# Altium footprint library PcbLib1.PcbLib: 60 footprints (part 2 of 4)
Each footprint in its own frame and in the unit in brackets; x right, y up, seen from the top. Pads: shape width x height; smd on the part's side, far side on the other; paste and mask are expansions set on the pad; w line width, h text height; cw(c..) or ccw(c..) is an arc to the next point about the centre after c.
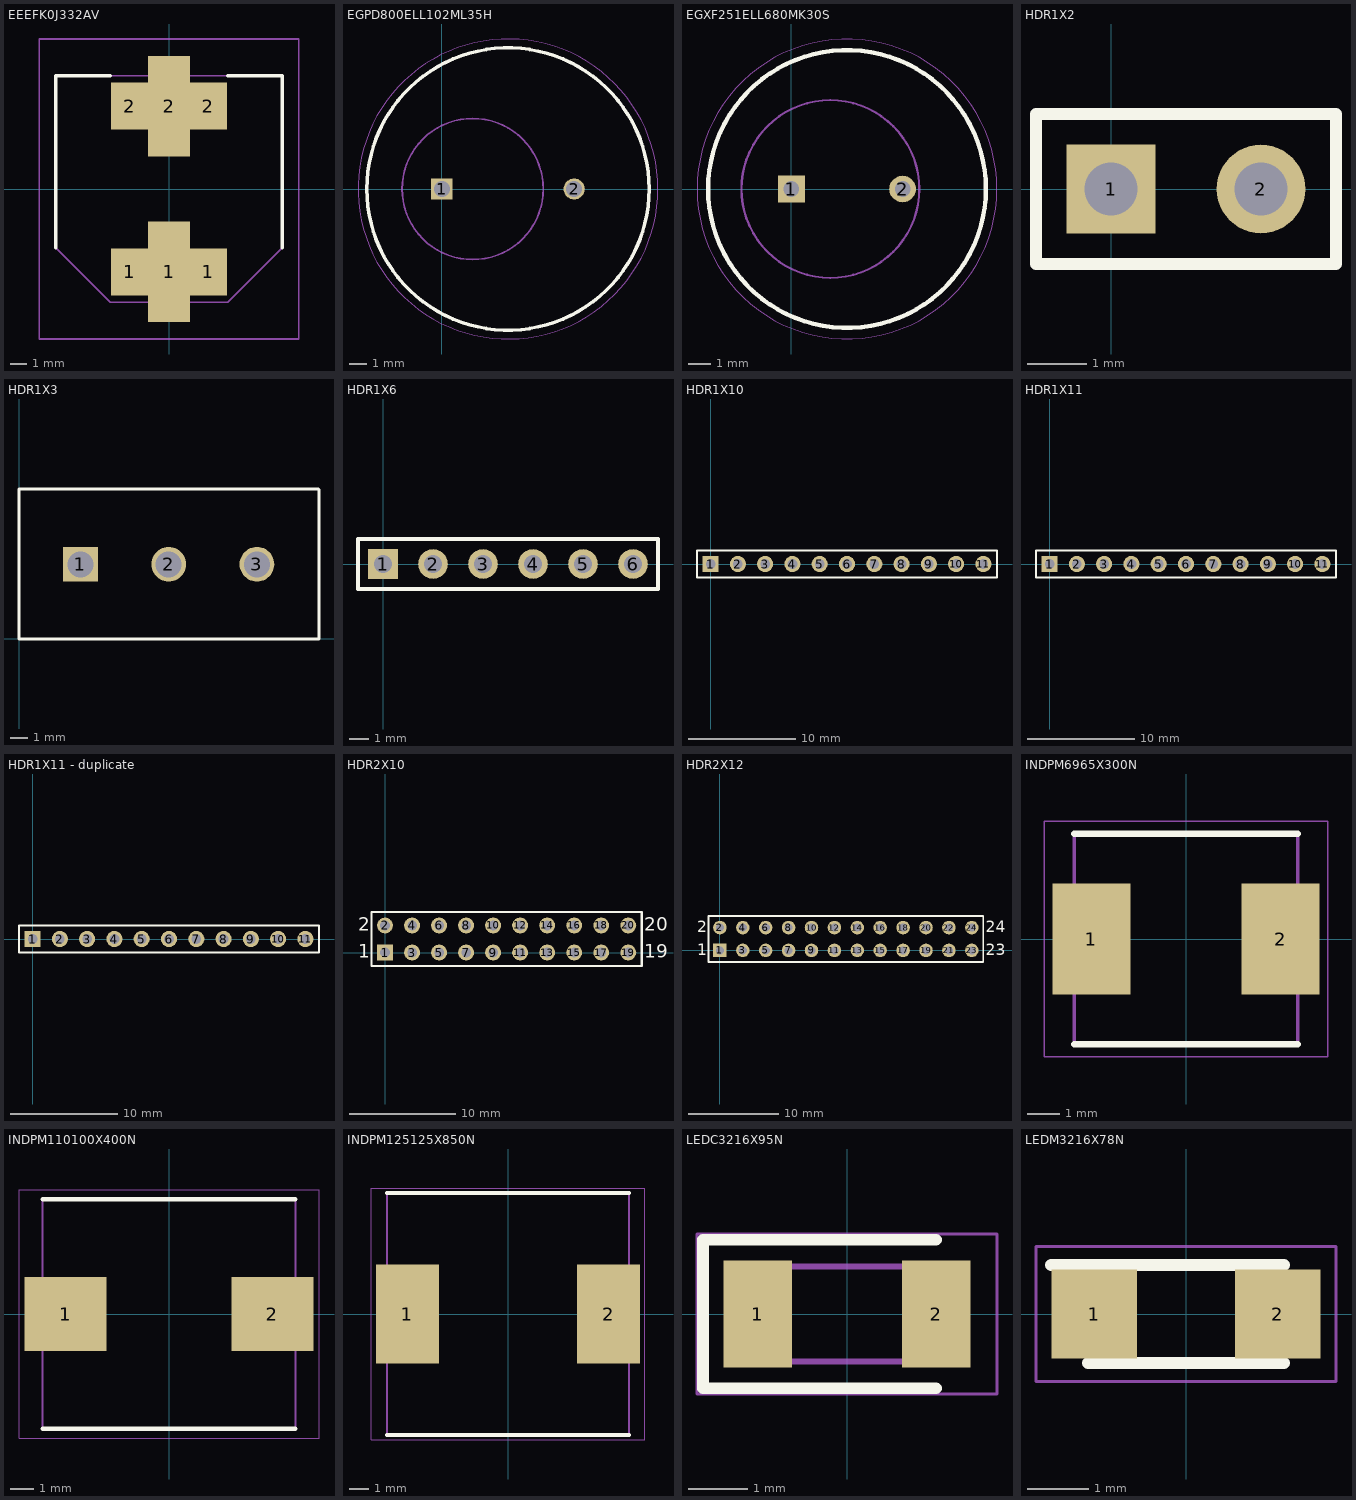
[diagram p1: the footprints below, top view; thin cyan lines are the x and y axes]

## EEEFK0J332AV [mm]
pads (6):
  rect 2.2x2.8 smd: 1(-2.35,-4.95) 1(2.35,-4.95) 2(-2.35,4.95) 2(2.35,4.95)
  rect 2.5x6 smd: 1(0,-4.95) 2(0,4.95)
Top Overlay:
  lines w0.2: -6.75,-3.5 -6.75,6.75 -3.5,6.75 ; 3.5,6.75 6.75,6.75 6.75,-3.5
Mechanical 13:
  lines w0.1: -6.75,-3.5 -3.5,-6.75 ; -6.75,-3.5 -6.75,6.75 6.75,6.75 6.75,-3.5 3.5,-6.75 -3.5,-6.75 ; -6.75,-3.5 -3.5,-6.75
Mechanical 15:
  lines w0.1: -7.75,-8.95 -7.75,8.95 7.75,8.95 7.75,-8.95 -7.75,-8.95
3D body "EEVFK1K101V.stp": height 13.8, standoff 0, extent -6.731,-7.323 6.769,7.577

## EGPD800ELL102ML35H [mm] "1000uF"
pads (2):
  rect 1.2x1.2 hole 0.9: 1(0,0)
  round 1.2 hole 0.9: 2(7.5,0)
Top Overlay:
  circle w0.2: c3.75,0 r8
Mechanical 13:
  circle w0.1: c1.75,0 r4
Mechanical 15:
  circle w0.05: c3.75,0 r8.5
3D body: height 0, standoff 0, extent 7.5,0 7.5,0
3D body: height 0, standoff 0, extent 0,0 0,0
3D body: height 16, standoff 0, extent -4.25,-8 11.75,8

## EGXF251ELL680MK30S [mm] "68uF"
pads (2):
  rect 1.2x1.2 hole 0.7: 1(0,0)
  round 1.2 hole 0.7: 2(5,0)
Top Overlay:
  circle w0.2: c2.5,0 r6.25
Mechanical 13:
  circle w0.1: c1.75,0 r4
Mechanical 15:
  circle w0.05: c2.5,0 r6.75
3D body: height 0, standoff 0, extent 5,0 5,0
3D body: height 8, standoff 0, extent -3.71,-6.25 8.79,6.25
3D body: height 0, standoff 0, extent 0,0 0,0

## HDR1X2 [mm] "Connector; Header; 2 Position"
pads (2):
  rect 1.5x1.5 hole 0.9: 1(0,0)
  round 1.5 hole 0.9: 2(2.54,0)
Top Overlay:
  lines w0.2: -1.27,-1.27 -1.27,1.27 3.81,1.27 3.81,-1.27 -1.27,-1.27

## HDR1X3 [mm] "Connector; Header; 3 Position"
pads (3):
  rect 2x2 hole 1.5: 1(3.54,4.3)
  round 2 hole 1.5: 2(8.62,4.3) 3(13.7,4.3)
Top Overlay:
  lines w0.2: 0,8.6 0,0 17.24,0 ; 0,8.636 17.24,8.636 ; 17.272,0 17.272,8.6

## HDR1X6 [mm] "Connector; Header; 6 Position"
pads (6):
  rect 1.5x1.5 hole 0.9: 1(0,0)
  round 1.5 hole 0.9: 2(2.54,0) 3(5.08,0) 4(7.62,0) 5(10.16,0) 6(12.7,0)
Top Overlay:
  lines w0.2: -1.27,-1.27 -1.27,1.27 13.97,1.27 13.97,-1.27 -1.27,-1.27

## HDR1X10 [mm] "Connector; Header; 10 Position"
pads (11):
  rect 1.5x1.5 hole 0.9: 1(0,0)
  round 1.5 hole 0.9: 2(2.54,0) 3(5.08,0) 4(7.62,0) 5(10.16,0) 6(12.7,0) 7(15.24,0) 8(17.78,0) 9(20.32,0) 10(22.86,0) 11(25.4,0)
Top Overlay:
  lines w0.2: -1.27,-1.27 -1.27,1.27 0.635,1.27 26.67,1.27 26.67,-1.27 -1.27,-1.27

## HDR1X11 [mm] "Connector; Header; 11 Position"
pads (11):
  rect 1.5x1.5 hole 0.9: 1(0,0)
  round 1.5 hole 0.9: 2(2.54,0) 3(5.08,0) 4(7.62,0) 5(10.16,0) 6(12.7,0) 7(15.24,0) 8(17.78,0) 9(20.32,0) 10(22.86,0) 11(25.4,0)
Top Overlay:
  lines w0.2: -1.27,-1.27 -1.27,1.27 0.635,1.27 26.67,1.27 26.67,-1.27 -1.27,-1.27

## HDR1X11 - duplicate [mm] "Connector; Header; 11 Position"
pads (11):
  rect 1.5x1.5 hole 0.9: 1(0,0)
  round 1.5 hole 0.9: 2(2.54,0) 3(5.08,0) 4(7.62,0) 5(10.16,0) 6(12.7,0) 7(15.24,0) 8(17.78,0) 9(20.32,0) 10(22.86,0) 11(25.4,0)
Top Overlay:
  lines w0.2: -1.27,-1.27 26.67,-1.27 26.67,1.27 0.635,1.27 -1.27,1.27 -1.27,-1.27

## HDR2X10 [mm] "Connector; Header; 10x2 Position"
pads (20):
  rect 1.5x1.5 hole 0.9: 1(0,0)
  round 1.5 hole 0.9: 2(0,2.54) 3(2.54,0) 4(2.54,2.54) 5(5.08,0) 6(5.08,2.54) 7(7.62,0) 8(7.62,2.54) 9(10.16,0) 10(10.16,2.54) 11(12.7,0) 12(12.7,2.54) 13(15.24,0) 14(15.24,2.54) 15(17.78,0) 16(17.78,2.54) 17(20.32,0) 18(20.32,2.54) 19(22.86,0) 20(22.86,2.54)
Top Overlay:
  lines w0.2: -1.27,-1.27 0.635,-1.27 24.13,-1.27 24.13,3.81 0.635,3.81 -1.27,3.81 -1.27,-1.27
  text "20" at 24.384,2.032 h1.27
  text "19" at 24.384,-0.508 h1.27
  text "1" at -2.54,-0.508 h1.27
  text "2" at -2.54,2.032 h1.27

## HDR2X12 [mm] "Connector; Header; 12x2 Position"
pads (24):
  rect 1.5x1.5 hole 0.9: 1(0,0)
  round 1.5 hole 0.9: 2(0,2.54) 3(2.54,0) 4(2.54,2.54) 5(5.08,0) 6(5.08,2.54) 7(7.62,0) 8(7.62,2.54) 9(10.16,0) 10(10.16,2.54) 11(12.7,0) 12(12.7,2.54) 13(15.24,0) 14(15.24,2.54) 15(17.78,0) 16(17.78,2.54) 17(20.32,0) 18(20.32,2.54) 19(22.86,0) 20(22.86,2.54) 21(25.4,0) 22(25.4,2.54) 23(27.94,0) 24(27.94,2.54)
Top Overlay:
  lines w0.2: -1.27,-1.27 29.21,-1.27 29.21,3.81 -1.27,3.81 -1.27,-1.27
  text "24" at 29.464,2.032 h1.27
  text "23" at 29.464,-0.508 h1.27
  text "2" at -2.54,2.032 h1.27
  text "1" at -2.54,-0.508 h1.27

## INDPM6965X300N [mm]
pads (2):
  rect 2.4x3.4 smd: 1(-2.9,0) 2(2.9,0)
Top Overlay:
  lines w0.2: -3.43,-3.235 3.43,-3.235 ; -3.43,3.235 3.43,3.235
Mechanical 13:
  lines w0.1: -3.43,-3.235 3.43,-3.235 3.43,3.235 -3.43,3.235 -3.43,-3.235
Mechanical 15:
  lines w0.05: -4.35,-3.612 4.35,-3.612 4.35,3.612 -4.35,3.612 -4.35,-3.612
3D body "IHLP2525CZER220M11.stp": height 2.89, standoff 0, extent -3.542,-3.331 3.535,3.339

## INDPM110100X400N [mm]
pads (2):
  rect 3.55x3.2 smd: 1(-4.5,0) 2(4.5,0)
Top Overlay:
  lines w0.2: -5.5,-5 5.5,-5 ; -5.5,5 5.5,5
Mechanical 13:
  lines w0.1: -5.5,-5 5.5,-5 5.5,5 -5.5,5 -5.5,-5
Mechanical 15:
  lines w0.05: -6.525,-5.4 6.525,-5.4 6.525,5.4 -6.525,5.4 -6.525,-5.4
3D body "SRP1038C-100M.stp": height 4, standoff 0, extent -5.5,-5 5.5,5

## INDPM125125X850N [mm]
pads (2):
  rect 3.25x5.1 smd: 1(-5.2,0) 2(5.2,0)
Top Overlay:
  lines w0.2: -6.25,-6.25 6.25,-6.25 ; -6.25,6.25 6.25,6.25
Mechanical 13:
  lines w0.1: -6.25,-6.25 6.25,-6.25 6.25,6.25 -6.25,6.25 -6.25,-6.25
Mechanical 15:
  lines w0.05: -7.075,-6.5 7.075,-6.5 7.075,6.5 -7.075,6.5 -7.075,-6.5
3D body "B82477P4333M000.stp": height 7.86, standoff 0.01, extent -6,-6 6,6

## LEDC3216X95N [mm]
pads (2):
  rect 1.15x1.8 smd: 1(-1.5,0) 2(1.5,0)
Top Overlay:
  lines w0.2: 1.5,-1.25 -2.425,-1.25 -2.425,1.25 1.5,1.25
Mechanical 13:
  lines w0.1: -1.6,0.267 -1.067,0.8 ; -1.6,-0.8 -1.6,0.8 1.6,0.8 1.6,-0.8 -1.6,-0.8
Mechanical 15:
  lines w0.05: -2.525,-1.35 -2.525,1.35 2.525,1.35 2.525,-1.35 -2.525,-1.35

## LEDM3216X78N [mm]
pads (2):
  rect 1.4x1.45 smd: 1(-1.5,0) 2(1.5,0)
Top Overlay:
  lines w0.2: -2.2,0.8 1.6,0.8 ; -1.6,-0.8 1.6,-0.8
Mechanical 13:
  lines w0.1: -1.6,0.1 -0.9,0.8 ; -1.6,-0.8 1.6,-0.8 1.6,0.8 -1.6,0.8 -1.6,-0.8
Mechanical 15:
  lines w0.05: -2.45,-1.1 2.45,-1.1 2.45,1.1 -2.45,1.1 -2.45,-1.1